# Altium footprint library CAPRR1500W80L1750T1000H1550.PcbLib: 1 footprints
Each footprint in its own frame and in the unit in brackets; x right, y up, seen from the top. Pads: shape width x height; smd on the part's side, far side on the other; paste and mask are expansions set on the pad; w line width, h text height; cw(c..) or ccw(c..) is an arc to the next point about the centre after c.
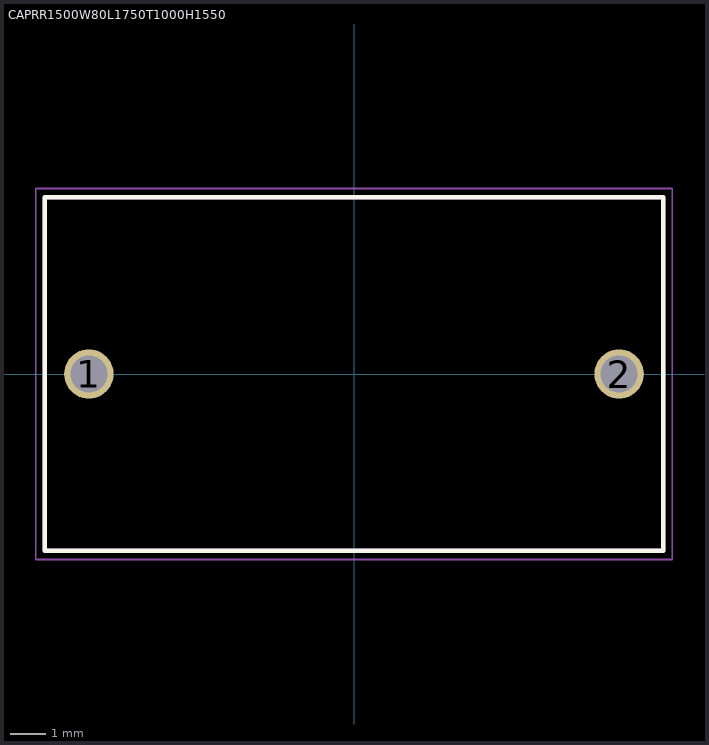
[diagram p0: the footprint, top view; thin cyan lines are the x and y axes]

## CAPRR1500W80L1750T1000H1550 [mm]
pads (2):
  round 1.4 hole 1.05: 1(-7.5,0) 2(7.5,0)
Top Overlay:
  lines w0.127: -8.75,-5 8.75,-5 8.75,5 -8.75,5 -8.75,-5
Mechanical 13:
  lines w0.127: -8.75,-5 -8.75,5 8.75,5 8.75,-5 -8.75,-5
Mechanical 15:
  lines w0.05: -9,-5.25 -9,5.25 9,5.25 9,-5.25 -9,-5.25